# Altium schematic symbol library 9081_PROTO_BD.SchLib: 1 symbol
Pins are listed as number, name and electrical type; pins without a type are passive.

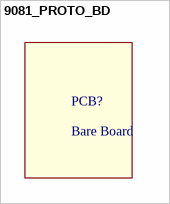
[diagram p0: symbol 9081_PROTO_BD]

## 9081_PROTO_BD
designator PCB?, comment Bare Board
PROTO-BOARD 8PIN SOIC